# Altium footprint library NautilusKB.PcbLib: 28 footprints (part 2 of 2)
Each footprint in its own frame and in the unit in brackets; x right, y up, seen from the top. Pads: shape width x height; smd on the part's side, far side on the other; paste and mask are expansions set on the pad; w line width, h text height; cw(c..) or ccw(c..) is an arc to the next point about the centre after c.
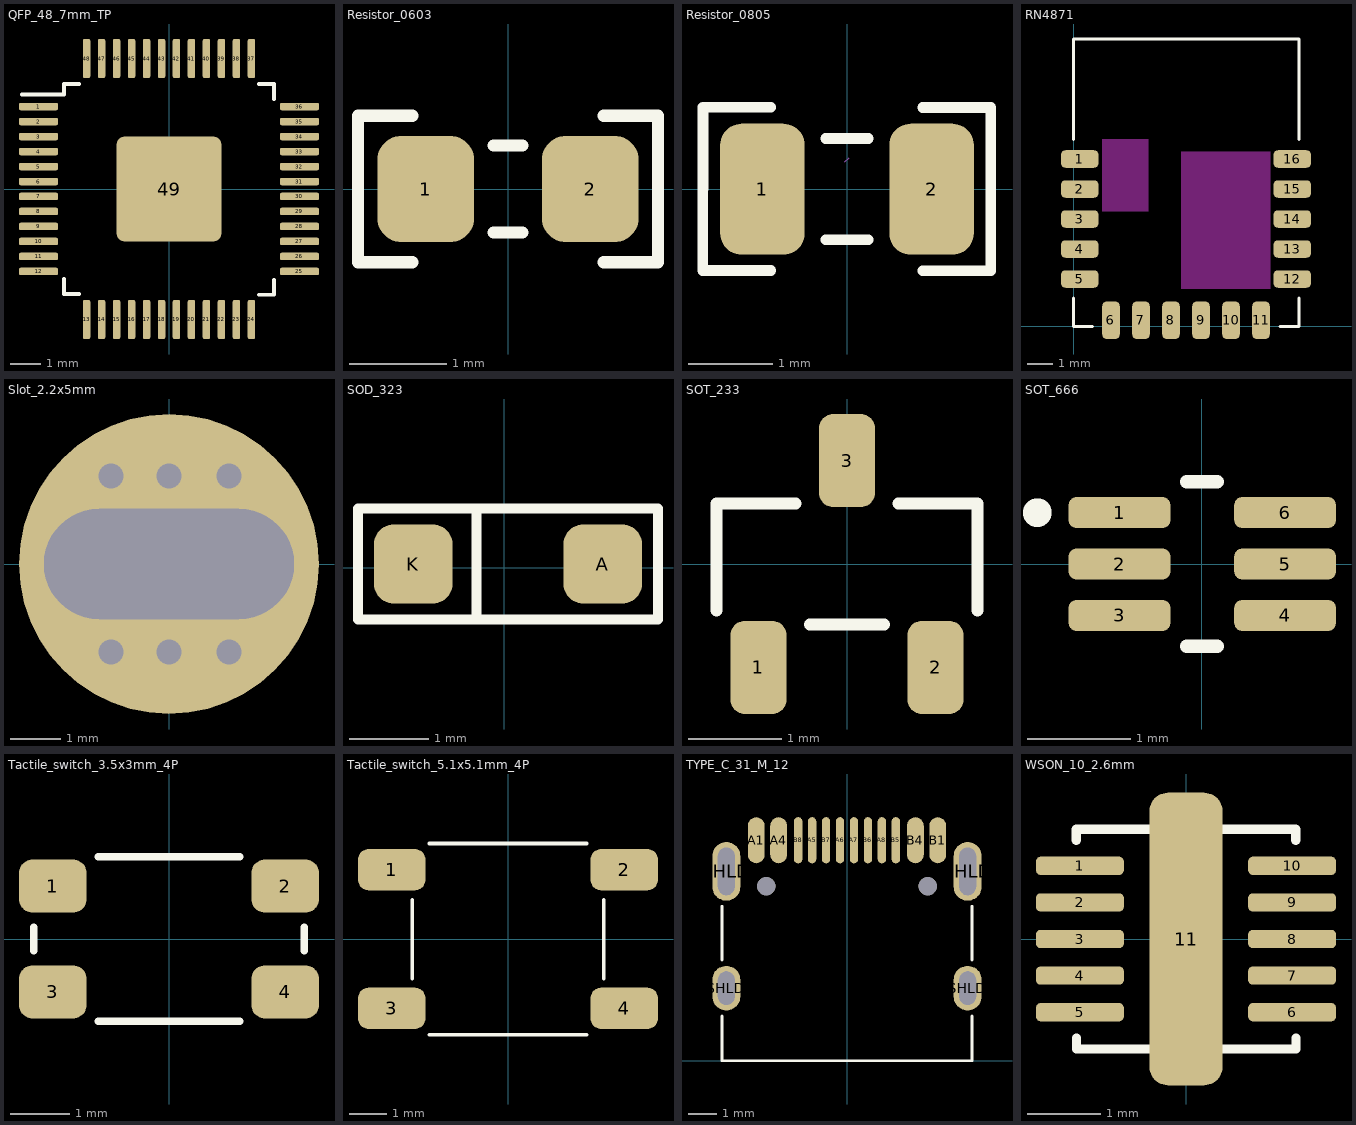
[diagram p1: the footprints below, top view; thin cyan lines are the x and y axes]

## QFP_48_7mm_TP [mm]
pads (49):
  rrect50% 1.3x0.25 smd: 1(-4.35,2.75) 2(-4.35,2.25) 3(-4.35,1.75) 4(-4.35,1.25) 5(-4.35,0.75) 6(-4.35,0.25) 7(-4.35,-0.25) 8(-4.35,-0.75) 9(-4.35,-1.25) 10(-4.35,-1.75) 11(-4.35,-2.25) 12(-4.35,-2.749) 25(4.35,-2.749) 26(4.35,-2.25) 27(4.35,-1.75) 28(4.35,-1.25) 29(4.35,-0.75) 30(4.35,-0.25) 31(4.35,0.25) 32(4.35,0.75) 33(4.35,1.25) 34(4.35,1.75) 35(4.35,2.25) 36(4.35,2.75)
  rrect50% 0.25x1.3 smd: 13(-2.75,-4.349) 14(-2.25,-4.349) 15(-1.75,-4.349) 16(-1.25,-4.349) 17(-0.75,-4.349) 18(-0.25,-4.349) 19(0.25,-4.349) 20(0.75,-4.349) 21(1.25,-4.349) 22(1.75,-4.349) 23(2.25,-4.349) 24(2.75,-4.349) 37(2.75,4.35) 38(2.25,4.35) 39(1.75,4.35) 40(1.25,4.35) 41(0.75,4.35) 42(0.25,4.35) 43(-0.25,4.35) 44(-0.75,4.35) 45(-1.25,4.35) 46(-1.75,4.35) 47(-2.25,4.35) 48(-2.75,4.35)
  rrect15% 3.5x3.5 smd: 49(0,0)
Top Overlay:
  lines w0.127: -4.9,3.15 -3.5,3.15 -3.5,3.5 -3,3.5 ; -3.5,-3 -3.5,-3.5 -3,-3.5 ; 3,-3.522 3.5,-3.522 3.5,-3.022 ; 3,3.5 3.5,3.5 3.5,3
3D body "User Library-TQFP48.step": height 1.1, standoff 0, extent -4.509,-4.509 4.509,4.509

## Resistor_0603 [mm]
pads (2):
  rrect50% 1x1.1 smd: 1(-0.85,0) 2(0.85,0)
Top Overlay:
  lines w0.127: -0.989,-0.756 -1.55,-0.756 -1.55,0 -1.55,0.756 -0.989,0.756 ; -0.15,-0.45 0.15,-0.45 ; -0.15,0.45 0.15,0.45 ; 0.989,-0.756 1.55,-0.756 1.55,0 1.55,0.756 0.989,0.756
3D body "RES 0603.STEP": height 0.45, standoff 0, extent -0.8,-0.4 0.8,0.4

## Resistor_0805 [mm]
pads (2):
  rrect50% 1x1.55 smd: 1(-1,0) 2(1,0)
Top Overlay:
  lines w0.127: -1.706,0.004 -1.706,-0.963 -0.903,-0.963 ; -1.703,0.004 -1.703,0.971 -0.901,0.971 ; -0.25,-0.6 0.25,-0.6 ; -0.25,0.6 0.25,0.6 ; 0.898,-0.967 1.7,-0.967 1.7,0 1.7,0.967 0.898,0.967
Mechanical 15:
  lines w0.003: -0.025,0.322 0.025,0.373
3D body "RES 0805.STEP": height 0.6, standoff 0, extent -1,-0.625 1,0.625

## RN4871 [mm]
pads (16):
  rrect50% 1.5x0.7 smd: 1(0.25,6.7) 2(0.25,5.5) 3(0.25,4.3) 4(0.25,3.1) 5(0.25,1.9) 12(8.75,1.9) 13(8.75,3.1) 14(8.75,4.3) 15(8.75,5.5) 16(8.75,6.7)
  rrect50% 0.7x1.5 smd: 6(1.5,0.25) 7(2.7,0.25) 8(3.9,0.25) 9(5.1,0.25) 10(6.3,0.25) 11(7.5,0.25)
Top Layer keep-out:
  rectangle: 1.143,4.6 3,7.5
  rectangle: 4.3,1.5 7.874,7
Top Overlay:
  lines w0.127: 0,1.143 0,0 0.762,0 ; 0,7.493 0,11.5 9.017,11.5 9.017,7.493 ; 8.255,0 9.017,0 9.017,1.143
3D body "Module_Microchip_RN4871.stp": height 2.09, standoff -0.01, extent -0.004,-0.008 8.996,11.492

## Slot_2.2x5mm [mm]
pads (7):
  round 0.8 hole 0.5: ""(-1.164,-1.759) ""(-1.164,1.759) ""(0,-1.759) ""(0,1.759) ""(1.2,1.759) ""(1.2,-1.759)
  round 6 hole 2.2 slot 5 at 0 deg: ""(0,0)

## SOD_323 [mm]
pads (2):
  rrect50% 1x1 smd: A(1.25,0.05) K(-1.15,0.05)
Top Overlay:
  lines w0.127: -0.35,-0.65 -0.35,0.75 ; -1.85,-0.65 1.95,-0.65 1.95,0.75 -1.85,0.75 -1.85,0.25 -1.85,-0.65
3D body "User Library-SOD323.step": height 0.95, standoff -0.04, extent -1.2,-0.575 1.3,0.675

## SOT_233 [mm]
pads (3):
  rrect50% 0.6x1 smd: 1(-0.95,-1.11) 2(0.95,-1.11) 3(0,1.11)
Top Overlay:
  lines w0.127: -1.4,-0.5 -1.4,0.65 -0.55,0.65 ; -0.4,-0.65 0.4,-0.65 ; 0.55,0.65 1.4,0.65 1.4,-0.5
3D body "User Library-SOT23-3.step": height 1.3, standoff 0, extent -1.45,-1.4 1.45,1.4

## SOT_666 [mm]
pads (6):
  rrect50% 0.99x0.3 smd: 1(-0.8,0.5) 2(-0.8,0) 3(-0.8,-0.5) 4(0.81,-0.5) 5(0.81,0) 6(0.81,0.5)
Top Overlay:
  circle w0.254: c-1.6,0.5 r0.012
  lines w0.127: -0.15,-0.8 0.15,-0.8 ; -0.15,0.8 0.15,0.8
3D body "User Library-SOT50P160X60-6.step": height 0.6, standoff 0, extent -0.8,-0.795 0.8,0.795

## Tactile_switch_3.5x3mm_4P [mm]
pads (4):
  rrect50% 1.15x0.9 smd: 1(-1.975,0.9) 2(1.975,0.9) 3(-1.975,-0.9) 4(1.975,-0.9)
Top Overlay:
  lines w0.127: -2.3,-0.2 -2.3,0.2 ; -1.2,-1.4 0,-1.4 1.2,-1.4 ; -1.2,1.4 0,1.4 1.2,1.4 ; 2.3,-0.2 2.3,0.2
3D body "KMR621NG LFS.step": height 1.9, standoff 0, extent -2.29,-1.39 2.306,1.39

## Tactile_switch_5.1x5.1mm_4P [mm]
pads (4):
  rrect50% 1.8x1.1 smd: 1(-3.1,1.85) 2(3.1,1.85) 3(-3.1,-1.85) 4(3.1,-1.85)
Top Overlay:
  lines w0.1: -2.55,-1.05 -2.55,1.05 ; -2.1,-2.55 2.1,-2.55 ; -2.1,2.55 2.1,2.55 ; 2.55,-1.05 2.55,1.05
3D body "Tactile_SMD_5x5mm.STEP": height 1.52, standoff 0, extent -3.25,-2.54 3.25,2.54

## TYPE_C_31_M_12 [mm]
pads (18):
  oval 0.6x1.65 smd: A1(-3.25,7.895) A4(-2.45,7.895) B1(3.25,7.895) B4(2.45,7.895)
  oval 0.3x1.65 smd: A5(-1.25,7.895) A6(-0.25,7.895) A7(0.25,7.895) A8(1.25,7.895) B5(1.75,7.895) B6(0.75,7.895) B7(-0.75,7.895) B8(-1.75,7.895)
  oval 1x1.6 hole 0.6 slot 1.2 at 90 deg: SHLD(-4.32,2.6) SHLD(4.32,2.6)
  oval 1x2.1 hole 0.6 slot 1.7 at 90 deg: SHLD(-4.32,6.78) SHLD(4.32,6.78)
  round 0.65 hole 0.65: ""(-2.89,6.25) ""(2.89,6.25)
Top Overlay:
  lines w0.1: -4.47,1.601 -4.47,0 4.47,0 4.47,1.601 ; -4.47,3.608 -4.47,5.536 ; 4.47,3.608 4.47,5.536
3D body "HRO  TYPE-C-31-M-12.step": height 3.21, standoff -1, extent -4.47,0 4.47,7.9

## WSON_10_2.6mm [mm]
pads (11):
  rrect50% 1.2x0.25 smd: 1(-1.45,1) 2(-1.45,0.5) 3(-1.45,0) 4(-1.45,-0.5) 5(-1.45,-1) 6(1.45,-1) 7(1.45,-0.5) 8(1.45,0) 9(1.45,0.5) 10(1.45,1)
  rrect50% 1x4 smd: 11(0,0)
Top Overlay:
  lines w0.127: -1.5,1.35 -1.5,1.5 1.5,1.5 1.5,1.35 ; -1.498,-1.352 -1.498,-1.502 1.502,-1.502 1.502,-1.352
3D body "User Library-10WSON.step": height 0.66, standoff -0.03, extent -1.505,-1.5 1.505,1.5